# EAGLE library part 1_10_CON (library 1_10_CON)
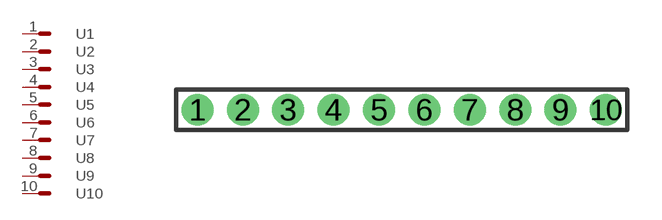
[diagram p0: symbol with the pads of 1_10_CON; footprint 1_10_CON]

Designator prefix -; gates 1=CON 2=CON 3=CON 4=CON 5=CON 6=CON 7=CON 8=CON 9=CON 10=CON

## 1_10_CON  [1_10_CON]
1  1:S  pas
2  2:S  pas
3  3:S  pas
4  4:S  pas
5  5:S  pas
6  6:S  pas
7  7:S  pas
8  8:S  pas
9  9:S  pas
10  10:S  pas

## Footprint 1_10_CON (pad centres in mm)
drill 0.9 pad 1.27 round: 1 -9,0; 2 -7,0; 3 -5,0; 4 -3,0; 5 -1,0; 6 1,0; 7 3,0; 8 5,0; 9 7,0; 10 9,0